# Altium footprint library R0805.PcbLib: 3 footprints
Each footprint in its own frame and in the unit in brackets; x right, y up, seen from the top. Pads: shape width x height; smd on the part's side, far side on the other; paste and mask are expansions set on the pad; w line width, h text height; cw(c..) or ccw(c..) is an arc to the next point about the centre after c.
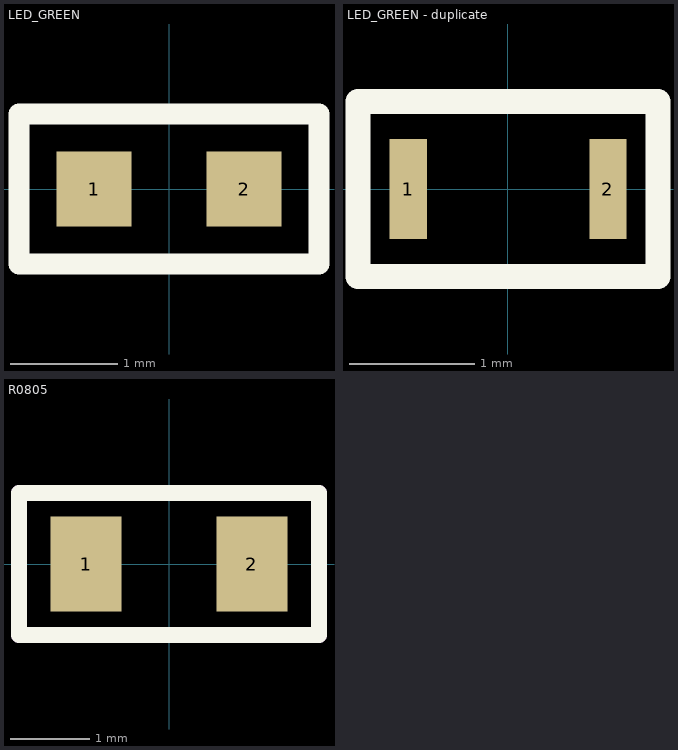
[diagram p0: the footprints below, top view; thin cyan lines are the x and y axes]

## LED_GREEN [mm]
pads (2):
  rect 0.7x0.7 smd: 1(-0.7,0) 2(0.7,0)
Top Overlay:
  lines w0.2: -1.4,-0.7 -1.4,0.7 1.4,0.7 1.4,-0.7 -1.4,-0.7

## LED_GREEN - duplicate [mm]
pads (2):
  rect 0.3x0.8 smd: 1(-0.8,0) 2(0.8,0)
Top Overlay:
  lines w0.2: -1.2,-0.7 -1.2,-0.45 -1.2,0.7 1.2,0.7 1.2,-0.7 -1.2,-0.7

## R0805 [mm]
pads (2):
  rect 0.9x1.2 smd: 1(-1.05,0) 2(1.05,0)
Top Overlay:
  lines w0.2: -1.9,-0.9 -1.9,0.9 1.9,0.9 1.9,-0.9 -1.9,-0.9
Top Assembly:
  lines w0.2: -1.9,-0.9 -1.9,0.9 1.9,0.9 1.9,-0.9 -1.9,-0.9
  text "'.Designator'" at -8.887,0 h0.77
3D body "RC0805JR-131KL.STEP": height 0.61, standoff 0.01, extent -1,-0.625 1,0.625